# EAGLE library part CDCLVC1108 (library cdclvc11xx_10)
CDCLVC1108 3.3V and 2.5V LVCMOS High-Performance Clock Buffer - 1:8 Fan-out Source: http://www.ti.com/lit/ds/symlink/cdclvc1108.pdf
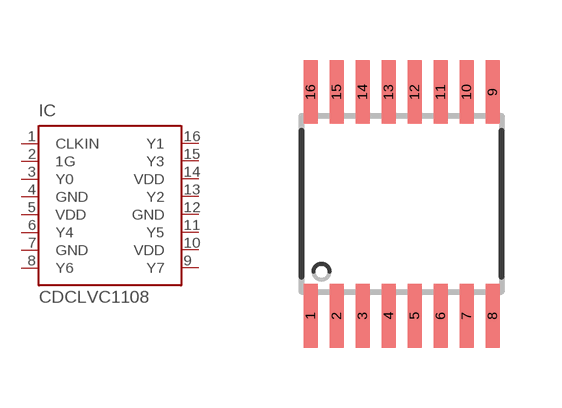
[diagram p4: symbol with the pads of TSSOP16; footprint TSSOP16]

Designator prefix IC

## CDCLVC1108PW (MF: Texas Instruments; MPN: CDCLVC1108; OC_FARNELL: 1829684; OC_NEWARK: 23T0797)  [TSSOP16]
1  CLKIN  in
2  1G  in
3  Y0  out
4  GND  pwr
5  VDD  pwr
6  Y4  out
7  GND  pwr
8  Y6  out
9  Y7  out
10  VDD  pwr
11  Y5  out
12  GND  pwr
13  Y2  out
14  VDD  pwr
15  Y3  out
16  Y1  out

## Footprint TSSOP16 (pad centres in mm)
TSSOP-16 Plastic Thin Srink Small Outline (PW) Source: http://www.ti.com/lit/ds/symlink/cdclvc1108.pdf
smd 0.35 x 1.6: 1 -2.275,-2.8; 2 -1.625,-2.8; 3 -0.975,-2.8; 4 -0.325,-2.8; 5 0.325,-2.8; 6 0.975,-2.8; 7 1.625,-2.8; 8 2.275,-2.8; 9 2.275,2.8; 10 1.625,2.8; 11 0.975,2.8; 12 0.325,2.8; 13 -0.325,2.8; 14 -0.975,2.8; 15 -1.625,2.8; 16 -2.275,2.8